# Altium footprint library SRR1260.PcbLib: 1 footprints
Each footprint in its own frame and in the unit in brackets; x right, y up, seen from the top. Pads: shape width x height; smd on the part's side, far side on the other; paste and mask are expansions set on the pad; w line width, h text height; cw(c..) or ccw(c..) is an arc to the next point about the centre after c.
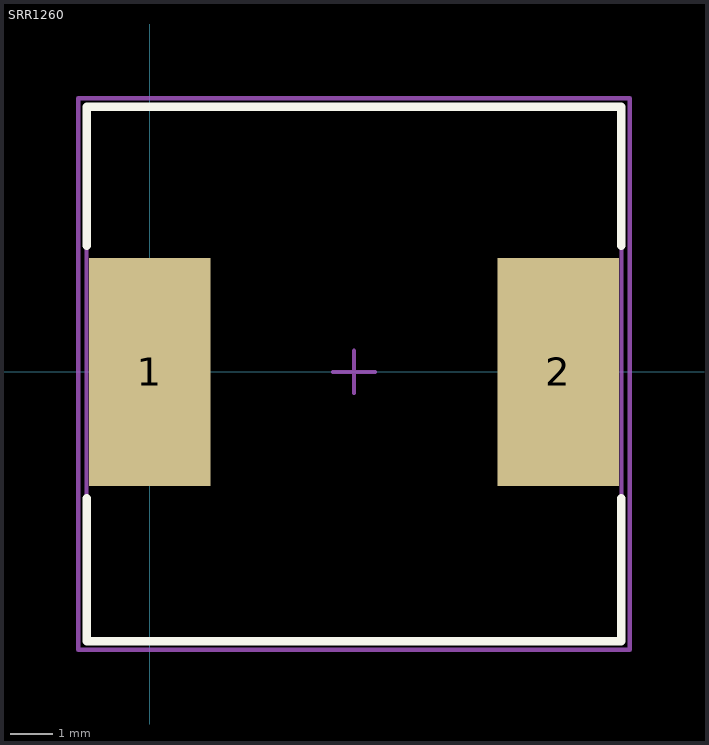
[diagram p0: the footprint, top view; thin cyan lines are the x and y axes]

## SRR1260 [mil]
pads (2):
  rect 114x213 smd: 1(0,0) 2(381.89,0)
Top Overlay:
  lines w7.87: -59.06,-118.11 -59.06,-251.97 440.94,-251.97 440.94,-118.11 ; -59.06,118.11 -59.06,248.03 440.94,248.03 440.94,118.11
Mechanical 13:
  lines w3.94: -59.06,-251.97 440.94,-251.97 440.94,248.03 -59.06,248.03 -59.06,-251.97
Mechanical 15:
  lines w3.94: 171.26,0 210.63,0 ; 190.94,-19.68 190.94,19.68 ; -66.93,-259.84 448.82,-259.84 448.82,255.91 -66.93,255.91 -66.93,-259.84
3D body "70138.stp": height 236.22, standoff 0, extent -55.12,-246.06 437.01,246.07